# EAGLE library part IC4013 (library chuong)
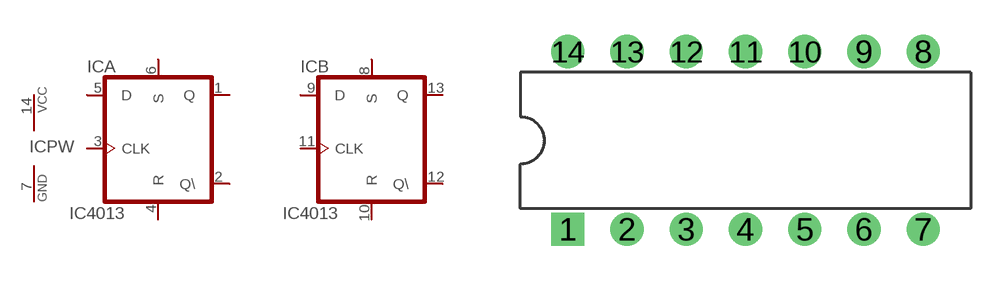
[diagram p22: symbol with the pads of DIL-14; footprint DIL-14]

Designator prefix IC; gates A=IC4013 B=IC4013 PW=POWER

## IC4013  [DIL-14]
1  A:Q  out
2  A:Q\  out
3  A:CLK  in
4  A:R  in
5  A:D  in
6  A:S  in
7  PW:GND  pwr
8  B:S  in
9  B:D  in
10  B:R  in
11  B:CLK  in
12  B:Q\  out
13  B:Q  out
14  PW:VCC  pwr

## Footprint DIL-14 (pad centres in mm)
drill 0.61 pad 1.422 square: 1 -7.62,-3.81
drill 0.61 pad 1.422 round: 2 -5.08,-3.81; 3 -2.54,-3.81; 4 0,-3.81; 5 2.54,-3.81; 6 5.08,-3.81; 7 7.62,-3.81; 8 7.62,3.81; 9 5.08,3.81; 10 2.54,3.81; 11 0,3.81; 12 -2.54,3.81; 13 -5.08,3.81; 14 -7.62,3.81